# EAGLE library part TUS_ETHERNET_BOARD (library myparts)
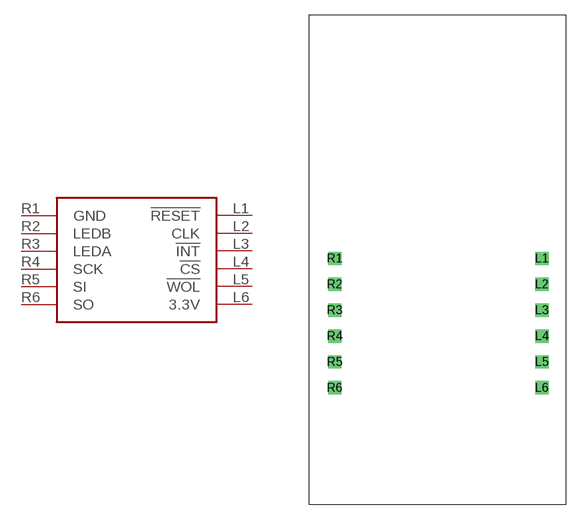
[diagram p12: symbol with the pads of TUS_ETHERNET_BOARD; footprint TUS_ETHERNET_BOARD]

Designator prefix -

## TUS_ETHERNET_BOARD  [TUS_ETHERNET_BOARD]
L1  !RESET
L2  CLK
L3  !INT
L4  !CS
L5  !WOL
L6  3.3V
R1  GND
R2  LEDB
R3  LEDA
R4  SCK
R5  SI
R6  SO

## Footprint TUS_ETHERNET_BOARD (pad centres in mm)
drill 0.8 square: L1 10.16,8.89; L2 10.16,6.35; L3 10.16,3.81; L4 10.16,1.27; L5 10.16,-1.27; L6 10.16,-3.81; R1 -10.16,8.89; R2 -10.16,6.35; R3 -10.16,3.81; R4 -10.16,1.27; R5 -10.16,-1.27; R6 -10.16,-3.81